# Altium footprint library Phonix Connector.PcbLib: 12 footprints
Each footprint in its own frame and in the unit in brackets; x right, y up, seen from the top. Pads: shape width x height; smd on the part's side, far side on the other; paste and mask are expansions set on the pad; w line width, h text height; cw(c..) or ccw(c..) is an arc to the next point about the centre after c.
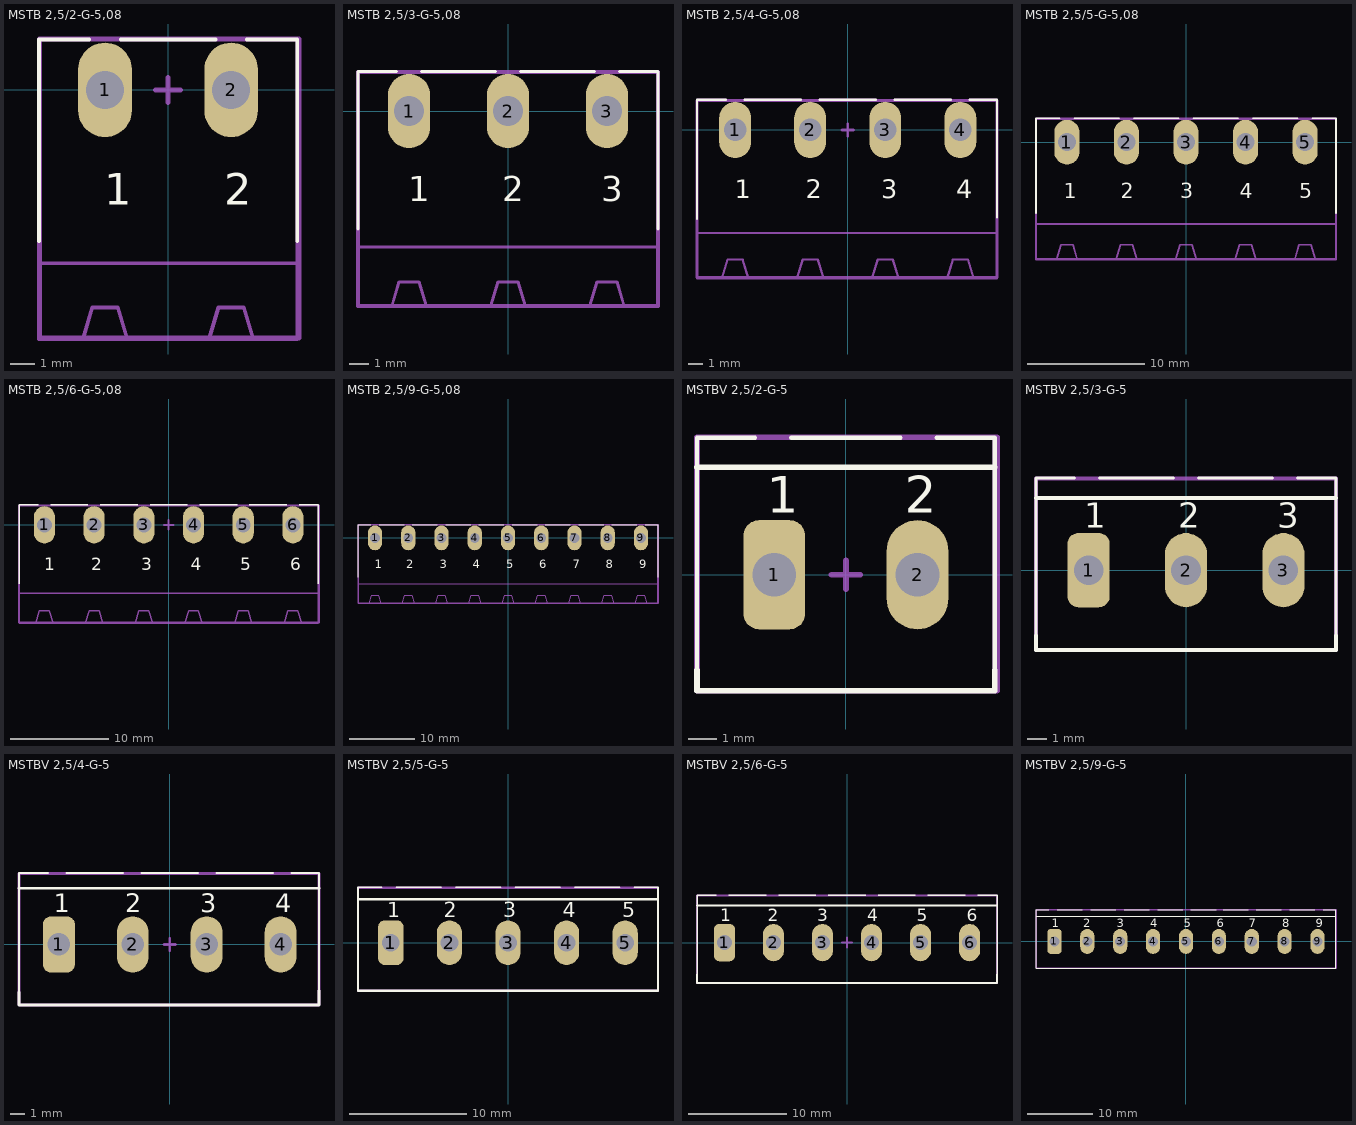
[diagram p0: the footprints below, top view; thin cyan lines are the x and y axes]

## MSTB 2,5/2-G-5,08 [mil] "Header, Nominal current: 12 A Rated voltage (III/2): 320 V Number of positions: 2 Pitch: 5.08 mm Color: green Contact surface: Tin Assembly: Soldering DESIGNER:ABBAS BASEREH"
height 338.58
pads (2):
  oval 85x150 hole 60: 1(-100,0) 2(100,0)
Top Overlay:
  lines w6: -204.72,-239.72 -204.72,80 -125,80 ; -75,80 75,80 ; 125,80 204.72,80 204.72,-239.72
  text "1" at -101.26,-182.48 h50
  text "2" at 88.74,-182.48 h50
Mechanical 13:
  lines w6: -204.72,-275 204.72,-275 ; -125,80 -204.72,80 -204.72,-239.72 -204.72,-395 -135,-395 ; -75,80 75,80 ; 125,80 204.72,80 204.72,-239.72 204.72,-395 135,-395 ; -135,-395 -120,-345 -80,-345 -65,-395 ; -135,-395 -65,-395 ; -65,-395 65,-395 ; 65,-395 80,-345 120,-345 135,-395 ; 65,-395 135,-395
Mechanical 15:
  lines w7.87: -19.68,0 19.68,0 ; 0,-19.68 0,19.68 ; -203.74,-393.7 207.68,-393.7 207.68,80.71 -203.74,80.71 -203.74,-393.7
3D body "User Library-MSTB 2,5-2-G-5,08 1770711.STEP": height 339.58, standoff -136.8, extent -199.21,-393.75 200.79,78.79

## MSTB 2,5/3-G-5,08 [mil] "Header, Nominal current: 12 A Rated voltage (III/2): 320 V Number of positions: 3 Pitch: 5.08 mm Color: green Contact surface: Tin Assembly: Soldering  DESIGNER:ABBAS BASEREH"
height 338.58
pads (3):
  oval 85x150 hole 60: 1(-200,0) 2(0,0) 3(200,0)
Top Overlay:
  lines w6: -303.15,-238.15 -303.15,80 -225,80 ; -175,80 -25,80 ; 25,80 175,80 ; 225,80 303.15,80 303.15,-238.15
  text "3" at 188.74,-182.48 h50
  text "2" at -11.26,-182.48 h50
  text "1" at -201.26,-182.48 h50
Mechanical 13:
  lines w6: -303.15,-275 303.15,-275 ; -225,80 -303.15,80 -303.15,-238.15 -303.15,-395 -235,-395 ; -175,80 -25,80 ; 25,80 175,80 ; 225,80 303.15,80 303.15,-238.15 303.15,-395 235,-395 ; -235,-395 -165,-395 ; -235,-395 -220,-345 -180,-345 -165,-395 ; -165,-395 -35,-395 ; -35,-395 35,-395 ; -35,-395 -20,-345 20,-345 35,-395 ; 35,-395 165,-395 ; 165,-395 180,-345 220,-345 235,-395 ; 165,-395 235,-395
Mechanical 15:
  lines w7.87: -303.15,-393.7 303.15,-393.7 303.15,78.74 -303.15,78.74 -303.15,-393.7
3D body "User Library-MSTB 2,5-3-G-5,08 1759020.STEP": height 339.58, standoff -136.8, extent -300,-393.79 300,78.74

## MSTB 2,5/4-G-5,08 [mil] "Header, Nominal current: 12 A Rated voltage (III/2): 320 V Number of positions: 4 Pitch: 5,08 mm Color: green Contact surface: Tin Assembly: Soldering  DESIGNER ABBAS BASEREH"
height 338.58
pads (4):
  oval 85x150 hole 60: 1(-300,0) 2(-100,0) 3(100,0) 4(300,0)
Top Overlay:
  lines w6: -401.57,-236.57 -401.57,80 -325,80 ; -275,80 -125,80 ; -75,80 75,80 ; 125,80 275,80 ; 325,80 397.64,80 397.64,-232.64
  text "1" at -301.26,-182.48 h50
  text "2" at -111.26,-182.48 h50
  text "3" at 88.74,-182.48 h50
  text "4" at 288.74,-182.48 h50
Mechanical 13:
  lines w6: -397.64,-275 397.64,-275 ; -325,80 -401.57,80 -401.57,-236.57 -401.57,-395 -335,-395 ; -275,80 -125,80 ; -75,80 75,80 ; 125,80 275,80 ; 325,80 397.64,80 397.64,-232.64 397.64,-395 335,-395 ; -335,-395 -320,-345 -280,-345 -265,-395 ; -335,-395 -265,-395 ; -265,-395 -135,-395 ; -135,-395 -120,-345 -80,-345 -65,-395 ; -135,-395 -65,-395 ; -65,-395 65,-395 ; 65,-395 135,-395 ; 65,-395 80,-345 120,-345 135,-395 ; 135,-395 265,-395 ; 265,-395 335,-395 ; 265,-395 280,-345 320,-345 335,-395
Mechanical 15:
  lines w7.87: -15.75,0 15.75,0 ; 0,-15.75 0,15.75 ; -401.57,-393.7 -401.57,78.74 397.64,78.74 397.64,-393.7 -401.57,-393.7
3D body "User Library-MSTB 2,5-4-G-5,08 1759033.STEP": height 338.58, standoff -137.8, extent -400,-393.79 400,78.74

## MSTB 2,5/5-G-5,08 [mil] "Header, Nominal current: 12 A Rated voltage (III/2): 320 V Number of positions: 5 Pitch: 5,08 mm Color: green Contact surface: Tin Assembly: Soldering  DESIGNER ABBAS BASEREH"
height 338.58
pads (5):
  oval 85x150 hole 60: 1(-400,0) 2(-200,0) 3(0,0) 4(200,0) 5(400,0)
Top Overlay:
  lines w6: -503.94,-238.94 -503.94,80 -425,80 ; -375,80 -225,80 ; -175,80 -25,80 ; 25,80 175,80 ; 225,80 375,80 ; 425,80 503.94,80 503.94,-238.94
  text "5" at 380,-189.37 h50
  text "4" at 180,-189.37 h50
  text "3" at -20,-189.37 h50
  text "2" at -220,-189.37 h50
  text "1" at -410,-189.37 h50
Mechanical 13:
  lines w6: -503.94,-275 503.94,-275 ; -425,80 -503.94,80 -503.94,-238.94 -503.94,-395 -435,-395 ; -375,80 -225,80 ; -175,80 -25,80 ; 25,80 175,80 ; 225,80 375,80 ; 425,80 503.94,80 503.94,-238.94 503.94,-395 435,-395 ; -435,-395 -420,-345 -380,-345 -365,-395 ; -435,-395 -365,-395 ; -365,-395 -235,-395 ; -235,-395 -220,-345 -180,-345 -165,-395 ; -235,-395 -165,-395 ; -165,-395 -35,-395 ; -35,-395 35,-395 ; -35,-395 -20,-345 20,-345 35,-395 ; 35,-395 165,-395 ; 165,-395 235,-395 ; 165,-395 180,-345 220,-345 235,-395 ; 235,-395 365,-395 ; 365,-395 435,-395 ; 365,-395 380,-345 420,-345 435,-395
Mechanical 15:
  lines w7.87: -503.94,-393.7 503.94,-393.7 503.94,78.74 -503.94,78.74 -503.94,-393.7
3D body "User Library-MSTB 2,5-5-G-5,08 1759046.STEP": height 338.58, standoff -137.8, extent -500,-393.79 500,78.74

## MSTB 2,5/6-G-5,08 [mil] "Header, Nominal current: 12 A Rated voltage (III/2): 320 V Number of positions: 6 Pitch: 5,08 mm Color: green Contact surface: Tin Assembly: Soldering  DESIGNER ABBAS BASEREH"
height 338.58
pads (6):
  oval 85x150 hole 60: 1(-500,0) 2(-300,0) 3(-100,0) 4(100,0) 5(300,0) 6(500,0)
Top Overlay:
  lines w6: -602.36,-237.36 -602.36,80 -525,80 ; -475,80 -325,80 ; -275,80 -125,80 ; -75,80 75,80 ; 125,80 275,80 ; 325,80 475,80 ; 525,80 602.36,80 602.36,-237.36
  text "1" at -501.26,-182.48 h50
  text "2" at -311.26,-182.48 h50
  text "3" at -111.26,-182.48 h50
  text "4" at 88.74,-182.48 h50
  text "5" at 288.74,-182.48 h50
  text "6" at 488.74,-182.48 h50
Mechanical 13:
  lines w6: -602.36,-275 602.36,-275 ; -525,80 -602.36,80 -602.36,-237.36 -602.36,-395 -535,-395 ; -475,80 -325,80 ; -275,80 -125,80 ; -75,80 75,80 ; 125,80 275,80 ; 325,80 475,80 ; 525,80 602.36,80 602.36,-237.36 602.36,-395 535,-395 ; -535,-395 -465,-395 ; -535,-395 -520,-345 -480,-345 -465,-395 ; -465,-395 -335,-395 ; -335,-395 -265,-395 ; -335,-395 -320,-345 -280,-345 -265,-395 ; -265,-395 -135,-395 ; -135,-395 -65,-395 ; -135,-395 -120,-345 -80,-345 -65,-395 ; -65,-395 65,-395 ; 65,-395 135,-395 ; 65,-395 80,-345 120,-345 135,-395 ; 135,-395 265,-395 ; 265,-395 335,-395 ; 265,-395 280,-345 320,-345 335,-395 ; 335,-395 465,-395 ; 465,-395 535,-395 ; 465,-395 480,-345 520,-345 535,-395
Mechanical 15:
  lines w7.87: -19.68,0 19.68,0 ; 0,-19.68 0,19.68 ; -602.36,-393.7 -602.36,78.74 605,78.74 605,-393.7 -602.36,-393.7
3D body "User Library-MSTB 2,5-6-G-5,08 1759059.STEP": height 338.58, standoff -137.8, extent -605,-391.27 595,81.27

## MSTB 2,5/9-G-5,08 [mil] "Header, Nominal current: 12 A Rated voltage (III/2): 320 V Number of positions: 6 Pitch: 5,08 mm Color: green Contact surface: Tin Assembly: Soldering  DESIGNER ABBAS BASEREH"
height 338.58
pads (9):
  oval 85x150 hole 60: 1(-800,0) 2(-600,0) 3(-400,0) 4(-200,0) 5(0,0) 6(200,0) 7(400,0) 8(600,0) 9(800,0)
Top Overlay:
  lines w6: -902.36,-237.36 -902.36,80 -825,80 ; -775,80 -625,80 ; -575,80 -425,80 ; -375,80 -225,80 ; -175,80 -25,80 ; 25,80 175,80 ; 225,80 375,80 ; 425,80 575,80 ; 625,80 775,80 ; 825,80 902.36,80 902.36,-237.36
  text "1" at -801.26,-182.48 h50
  text "2" at -611.26,-182.48 h50
  text "3" at -411.26,-182.48 h50
  text "4" at -211.26,-182.48 h50
  text "5" at -11.26,-182.48 h50
  text "6" at 188.74,-182.48 h50
  text "7" at 388.74,-182.48 h50
  text "8" at 588.74,-182.48 h50
  text "9" at 788.74,-182.48 h50
Mechanical 1:
  lines w6: -902.36,-275 900,-275 ; -825,80 -902.36,80 -902.36,-237.36 -902.36,-395 -835,-395 ; -775,80 -625,80 ; -575,80 -425,80 ; -375,80 -225,80 ; -175,80 -25,80 ; 25,80 175,80 ; 225,80 900,80 900,-395 235,-395 ; 365,-395 380,-345 420,-345 435,-395 ; 565,-395 580,-345 620,-345 635,-395 ; 765,-395 780,-345 820,-345 835,-395 ; -835,-395 -820,-345 -780,-345 -765,-395 ; -835,-395 -765,-395 ; -765,-395 -635,-395 ; -635,-395 -620,-345 -580,-345 -565,-395 ; -635,-395 -565,-395 ; -565,-395 -435,-395 ; -435,-395 -420,-345 -380,-345 -365,-395 ; -435,-395 -365,-395 ; -365,-395 -235,-395 ; -235,-395 -220,-345 -180,-345 -165,-395 ; -235,-395 -165,-395 ; -165,-395 -35,-395 ; -35,-395 -20,-345 20,-345 35,-395 ; -35,-395 35,-395 ; 35,-395 165,-395 ; 165,-395 180,-345 220,-345 235,-395 ; 165,-395 235,-395
Mechanical 15:
  lines w7.87: -19.68,0 19.68,0 ; 0,-19.68 0,19.68 ; -902.36,-393.7 -902.36,78.74 902.36,78.74 902.36,-393.7 -902.36,-393.7
3D body "User Library-MSTB 2,5-3-G-5,08 1759020.STEP": height 339.58, standoff -136.8, extent 300,-393.79 900,78.74
3D body "User Library-MSTB 2,5-6-G-5,08 1759059.STEP": height 338.58, standoff -137.8, extent -900,-393.79 300,78.74

## MSTBV 2,5/2-G-5 [mil] "Header, Nominal current: 12 A Rated voltage (III/2): 320 V Number of positions: 2 Pitch: 5mm Color: green Contact surface: Tin Assembly: Soldering DESIGNER:ABBAS BASEREH"
height 338.58
pads (2):
  rrect50% 85x150 hole 60: 1(-98.43,0)
  oval 85x150 hole 60: 2(98.43,0)
Top Overlay:
  lines w6: -204.72,-131.46 -204.72,188.27 -125,188.27 ; -75,188.27 75,188.27 ; 125,188.27 204.72,188.27 204.72,-131.46
  lines w7.87: -204.72,-131.46 -204.72,-159.45 204.72,-159.45 204.72,-131.46 ; -204.72,147.64 204.72,147.64
  text "1" at -109.13,85.24 h50
  text "2" at 80.87,85.24 h50
Mechanical 13:
  lines w6: -204.72,-131.46 -204.72,188.27 -125,188.27 ; -75,188.27 75,188.27 ; 125,188.27 204.72,188.27 204.72,-131.46
Mechanical 15:
  lines w7.87: -19.68,0 19.68,0 ; 0,-19.68 0,19.69 ; -204.72,-159.45 207.68,-159.45 207.68,188.98 -203.74,188.98 -204.72,188.98 -204.72,-159.45
3D body "1753437.stEp": height 473.44, standoff -152.54, extent -196.85,-151.57 196.85,187.01

## MSTBV 2,5/3-G-5 [mil] "Header, Nominal current: 12 A Rated voltage (III/2): 320 V Number of positions: 3 Pitch: 5mm Color: green Contact surface: Tin Assembly: Soldering  DESIGNER:ABBAS BASEREH"
height 338.58
pads (3):
  rrect50% 85x150 hole 60: 1(-196.85,0)
  oval 85x150 hole 60: 2(0,0) 3(196.85,0)
Top Overlay:
  lines w6: -303.15,-131.85 -303.15,186.3 -225,186.3 ; -175,186.3 -25,186.3 ; 25,186.3 175,186.3 ; 225,186.3 303.15,186.3 303.15,-131.85
  lines w7.87: -303.15,-131.85 -303.15,-161.42 303.15,-161.42 303.15,-131.85 ; -303.15,145.67 303.15,145.67
  text "3" at 184.8,85.24 h50
  text "2" at -15.2,85.24 h50
  text "1" at -205.2,85.24 h50
Mechanical 13:
  lines w6: -303.15,-131.85 -303.15,186.3 -225,186.3 ; -175,186.3 -25,186.3 ; 25,186.3 175,186.3 ; 225,186.3 303.15,186.3 303.15,-131.85
Mechanical 15:
  lines w7.87: -303.15,-161.42 -303.15,185.04 303.15,185.04 303.15,-161.42 -299.21,-161.42 -303.15,-161.42
3D body "1753453.stEp": height 473.44, standoff -152.54, extent -295.28,-153.54 295.28,185.04

## MSTBV 2,5/4-G-5 [mil] "Header, Nominal current: 12 A Rated voltage (III/2): 320 V Number of positions: 4 Pitch: 5mm Color: green Contact surface: Tin Assembly: Soldering  DESIGNER ABBAS BASEREH"
height 338.58
pads (4):
  rrect50% 85x150 hole 60: 1(-295.28,0)
  oval 85x150 hole 60: 2(-98.43,0) 3(98.43,0) 4(295.28,0)
Top Overlay:
  lines w6: -401.57,-126.34 -401.57,190.24 -325,190.24 ; -275,190.24 -125,190.24 ; -75,190.24 75,190.24 ; 125,190.24 275,190.24 ; 325,190.24 397.64,190.24 397.64,-122.4
  lines w7.87: -401.57,-126.34 -401.57,-161.42 397.64,-161.42 397.64,-122.4 ; -401.57,149.61 397.64,149.61
  text "4" at 280.87,85.24 h50
  text "3" at 80.87,85.24 h50
  text "2" at -119.13,85.24 h50
  text "1" at -309.13,85.24 h50
Mechanical 13:
  lines w6: -401.57,-126.34 -401.57,190.24 -325,190.24 ; -275,190.24 -125,190.24 ; -75,190.24 75,190.24 ; 125,190.24 275,190.24 ; 325,190.24 397.64,190.24 397.64,-122.4
Mechanical 15:
  lines w7.87: -15.75,0 15.75,0 ; 0,-15.75 0,15.75 ; -401.57,-161.42 397.64,-161.42 397.64,188.98 -401.57,188.98 -401.57,-161.42
3D body "1753479.stEp": height 472.44, standoff -153.54, extent -393.7,-152.56 393.7,186.02

## MSTBV 2,5/5-G-5 [mil] "Header, Nominal current: 12 A Rated voltage (III/2): 320 V Number of positions: 5 Pitch: 5mm Color: green Contact surface: Tin Assembly: Soldering  DESIGNER ABBAS BASEREH"
height 338.58
pads (5):
  rrect50% 85x150 hole 60: 1(-393.7,0)
  oval 85x150 hole 60: 2(-196.85,0) 3(0,0) 4(196.85,0) 5(393.7,0)
Top Overlay:
  lines w6: -503.94,-132.64 -503.94,186.3 -425,186.3 ; -375,186.3 -225,186.3 ; -175,186.3 -25,186.3 ; 25,186.3 175,186.3 ; 225,186.3 375,186.3 ; 425,186.3 503.94,186.3 503.94,-132.64
  lines w7.87: -503.94,-132.64 -503.94,-161.42 503.94,-161.42 503.94,-132.64 ; -503.94,145.67 503.94,145.67
  text "1" at -406.06,86.22 h50
  text "2" at -216.06,86.22 h50
  text "3" at -16.06,86.22 h50
  text "4" at 183.94,86.22 h50
  text "5" at 383.94,86.22 h50
Mechanical 13:
  lines w6: -503.94,-132.64 -503.94,186.3 -425,186.3 ; -375,186.3 -225,186.3 ; -175,186.3 -25,186.3 ; 25,186.3 175,186.3 ; 225,186.3 375,186.3 ; 425,186.3 503.94,186.3 503.94,-132.64
Mechanical 15:
  lines w7.87: -503.94,-161.42 -503.94,185.04 503.94,185.04 503.94,-161.42 -503.94,-161.42
3D body "1753495.stEp": height 472.44, standoff -153.54, extent -492.13,-153.54 492.13,185.04

## MSTBV 2,5/6-G-5 [mil] "Header, Nominal current: 12 A Rated voltage (III/2): 320 V Number of positions: 6 Pitch: 5mm Color: green Contact surface: Tin Assembly: Soldering  DESIGNER ABBAS BASEREH"
height 338.58
pads (6):
  rrect50% 85x150 hole 60: 1(-492.13,0)
  oval 85x150 hole 60: 2(-295.28,0) 3(-98.43,0) 4(98.43,0) 5(295.28,0) 6(492.13,0)
Top Overlay:
  lines w6: -602.36,-127.13 -602.36,190.24 -525,190.24 ; -475,190.24 -325,190.24 ; -275,190.24 -125,190.24 ; -75,190.24 75,190.24 ; 125,190.24 275,190.24 ; 325,190.24 475,190.24 ; 525,190.24 602.36,190.24 602.36,-127.13
  lines w7.87: -602.36,-127.13 -602.36,-161.42 602.36,-161.42 602.36,-127.13 ; -602.36,149.61 602.36,149.61
  text "6" at 480.87,85.24 h50
  text "5" at 280.87,85.24 h50
  text "4" at 80.87,85.24 h50
  text "3" at -119.13,85.24 h50
  text "2" at -319.13,85.24 h50
  text "1" at -509.13,85.24 h50
Mechanical 13:
  lines w6: -602.36,-127.13 -602.36,190.24 -525,190.24 ; -475,190.24 -325,190.24 ; -275,190.24 -125,190.24 ; -75,190.24 75,190.24 ; 125,190.24 275,190.24 ; 325,190.24 475,190.24 ; 525,190.24 602.36,190.24 602.36,-127.13
Mechanical 15:
  lines w7.87: -19.68,0 19.68,0 ; 0,-19.68 0,19.68 ; -602.36,-161.42 602.36,-161.42 602.36,188.98 -602.36,188.98 -602.36,-161.42
3D body "1753518.stEp": height 472.44, standoff -153.54, extent -590.55,-153.54 590.55,185.04

## MSTBV 2,5/9-G-5 [mil] "Header, Nominal current: 12 A Rated voltage (III/2): 320 V Number of positions: 6 Pitch: 5mm Color: green Contact surface: Tin Assembly: Soldering  DESIGNER ABBAS BASEREH"
height 338.58
pads (9):
  rrect50% 85x150 hole 60: 1(-787.4,0)
  oval 85x150 hole 60: 2(-590.55,0) 3(-393.7,0) 4(-196.85,0) 5(0,0) 6(196.85,0) 7(393.7,0) 8(590.55,0) 9(787.4,0)
Top Overlay:
  lines w6: -897.64,149.61 894.72,149.61 ; -820.28,190.24 -897.64,190.24 -897.64,-127.13 -897.64,-161.42 307.09,-161.42 897.64,-161.42 897.64,-127.13 897.64,190.24 820.28,190.24 ; -770.28,190.24 -620.28,190.24 ; -570.28,190.24 -420.28,190.24 ; -370.28,190.24 -220.28,190.24 ; -170.28,190.24 -20.28,190.24 ; 29.72,190.24 179.72,190.24 ; 223.43,190.24 373.43,190.24 ; 420.28,190.24 570.28,190.24 ; 620.28,190.24 770.28,190.24
  text "7" at 376.14,85.24 h50
  text "8" at 576.14,85.24 h50
  text "9" at 776.14,85.24 h50
  text "6" at 185.59,85.24 h50
  text "5" at -14.41,85.24 h50
  text "4" at -214.41,85.24 h50
  text "3" at -414.41,85.24 h50
  text "2" at -614.41,85.24 h50
  text "1" at -804.41,85.24 h50
Mechanical 13:
  lines w6: -897.64,-127.13 -897.64,190.24 -820.28,190.24 ; -770.28,190.24 -620.28,190.24 ; -570.28,190.24 -420.28,190.24 ; -370.28,190.24 -220.28,190.24 ; -170.28,190.24 -20.28,190.24 ; 29.72,190.24 179.72,190.24 ; 223.43,190.24 373.43,190.24 ; 420.28,190.24 570.28,190.24 ; 620.28,190.24 770.28,190.24 ; 820.28,190.24 897.64,190.24 897.64,-127.13
Mechanical 15:
  lines w7.87: -19.96,0 19.41,0 ; -0.28,-19.68 -0.28,19.68 ; -897.64,-161.42 -897.64,188.98 897.89,188.98 897.89,-161.42 -897.64,-161.42
3D body "1753518.stEp": height 472.44, standoff -153.54, extent -885.82,-153.54 295.28,185.04
3D body "1753453.stEp": height 473.44, standoff -152.54, extent 295.28,-153.54 885.83,185.04